# Altium footprint library HDRRA12W67P254_2X6_1524X254X503P.PcbLib: 1 footprints
Each footprint in its own frame and in the unit in brackets; x right, y up, seen from the top. Pads: shape width x height; smd on the part's side, far side on the other; paste and mask are expansions set on the pad; w line width, h text height; cw(c..) or ccw(c..) is an arc to the next point about the centre after c.
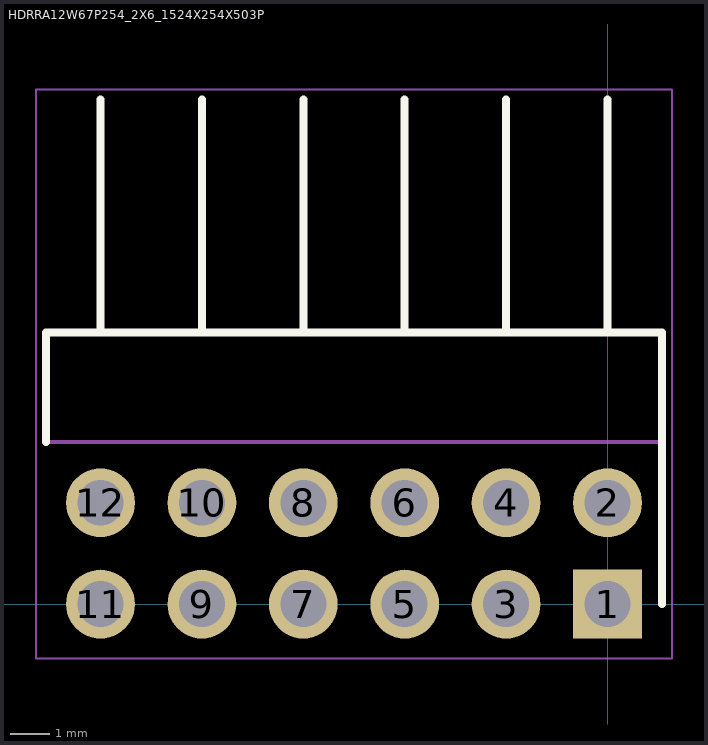
[diagram p0: the footprint, top view; thin cyan lines are the x and y axes]

## HDRRA12W67P254_2X6_1524X254X503P [mm]
pads (12):
  rect 1.725x1.725 / inner round 1.725 / far side rect 1.725x1.725 hole 1.15: 1(0,0)
  round 1.725 hole 1.15: 2(0,2.54) 3(-2.54,0) 4(-2.54,2.54) 5(-5.08,0) 6(-5.08,2.54) 7(-7.62,0) 8(-7.62,2.54) 9(-10.16,0) 10(-10.16,2.54) 11(-12.7,0) 12(-12.7,2.54)
Top Overlay:
  lines w0.2: -14.07,4.06 -14.07,6.8 1.37,6.8 1.37,0 ; -12.7,6.8 -12.7,12.64 ; -10.16,6.8 -10.16,12.64 ; -7.62,6.8 -7.62,12.64 ; -5.08,6.8 -5.08,12.64 ; -2.54,6.8 -2.54,12.64 ; 0,6.8 0,12.64
Mechanical 15:
  lines w0.1: -14.07,4.06 1.37,4.06 1.37,6.8 -14.07,6.8 -14.07,4.06
Mechanical 20:
  lines w0.05: -14.32,-1.362 1.62,-1.362 1.62,12.89 -14.32,12.89 -14.32,-1.362